# Altium schematic symbol library microchip-linear.SchLib: 2 symbols
Pins are listed as number, name and electrical type; pins without a type are passive.

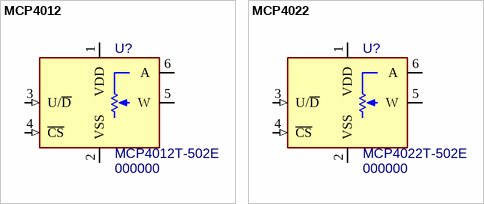
[diagram p0: symbols MCP4012 to MCP4022]

## MCP4012
designator U?, comment 000000  value MCP4012T-502E
64-Step Volatile Digital Potentiometer; Package: SOT23-6; PN: 000000; ExtraInfo: *
footprint SOT23-6 (6-Lead Plastic Small Outline Transistor)
pins: 1 VDD (power), 2 VSS (power), 3 U/~{D} (in), 4 ~{CS} (in), 5 W, 6 A

## MCP4022
designator U?, comment 000000  value MCP4022T-502E
64-Step Non-Volatile Digital Potentiometer; Package: SOT23-6; PN: 000000; ExtraInfo: *
footprint SOT23-6 (6-Lead Plastic Small Outline Transistor)
pins: 1 VDD (power), 2 VSS (power), 3 U/~{D} (in), 4 ~{CS} (in), 5 W, 6 A